# EAGLE library part S1G8-JUMP (library TABOR K1)
8-pinovy radový konektor - kolík : kolik= 0,6x0,6 mm /raster 2,54 mm/, diera s pokovenim = 0,9 mm, vrtanie = 1,1 mm
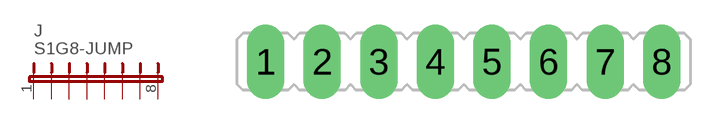
[diagram p50: symbol with the pads of S1G8; footprint S1G8]

Designator prefix J

## S1G8-JUMPN  [S1G8]
1  1  pas
2  2  pas
3  3  pas
4  4  pas
5  5  pas
6  6  pas
7  7  pas
8  8  pas

## Footprint S1G8 (pad centres in mm)
8-pinovy radovy konektor - kolik : kolik= 0,6x0,6mm, diera s pokovenim = 0,9mm, vrtanie = 1,1mm
drill 1.092 pad 1.676 long: 1 -8.89,0; 2 -6.35,0; 3 -3.81,0; 4 -1.27,0; 5 1.27,0; 6 3.81,0; 7 6.35,0; 8 8.89,0